# EAGLE library part SN74LV594ADR (library FSAE Electric)
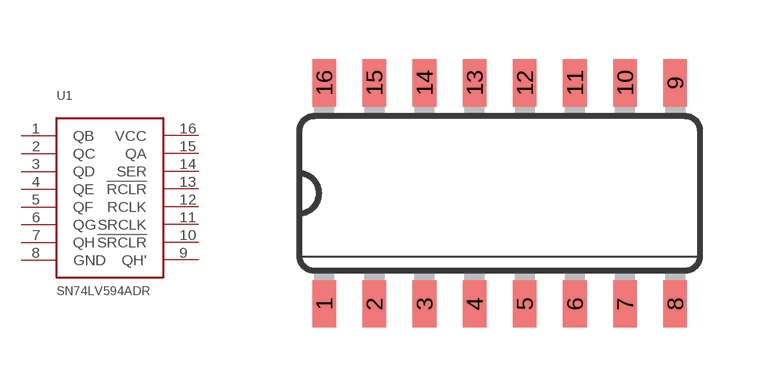
[diagram p90: symbol with the pads of SO-16; footprint SO-16]

Designator prefix U1

## SN74LV594ADR (PARTNO: SN74LV594ADR)  [SO-16]
1  QB
2  QC
3  QD
4  QE
5  QF
6  QG
7  QH
8  GND
9  QH'
10  !SRCLR
11  SRCLK
12  RCLK
13  !RCLR
14  SER
15  QA
16  VCC

## Footprint SO-16 (pad centres in mm)
smd 0.6 x 1.2: 1 -4.445,-2.8; 2 -3.175,-2.8; 3 -1.905,-2.8; 4 -0.635,-2.8; 5 0.635,-2.8; 6 1.905,-2.8; 7 3.175,-2.8; 8 4.445,-2.8; 9 4.445,2.8; 10 3.175,2.8; 11 1.905,2.8; 12 0.635,2.8; 13 -0.635,2.8; 14 -1.905,2.8; 15 -3.175,2.8; 16 -4.445,2.8